# EAGLE library part TPS54231 (library lib_stankus)
TI TPS54231 Farnell #1755637
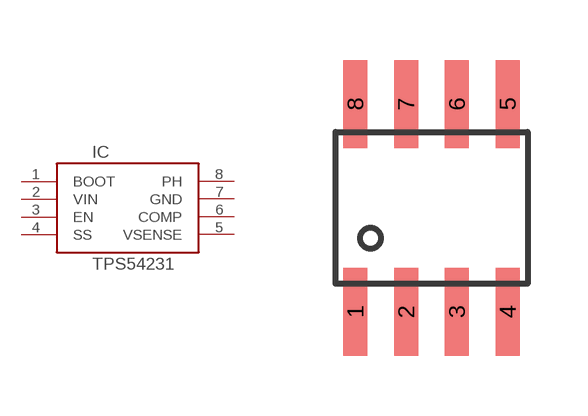
[diagram p86: symbol with the pads of SOIC8; footprint SOIC8]

Designator prefix IC

## TPS54231-SOIC8  [SOIC8]
1  BOOT  pas
2  VIN  pas
3  EN  pas
4  SS  pas
5  VSENSE  pas
6  COMP  pas
7  GND  pas
8  PH  pas

## Footprint SOIC8 (pad centres in mm)
SOIC8
smd 0.6 x 2.2: 1 -1.905,-2.6; 2 -0.635,-2.6; 3 0.635,-2.6; 4 1.905,-2.6; 5 1.905,2.6; 6 0.635,2.6; 7 -0.635,2.6; 8 -1.905,2.6